# Altium footprint library footprints.PcbLib: 23 footprints (part 1 of 2)
Each footprint in its own frame and in the unit in brackets; x right, y up, seen from the top. Pads: shape width x height; smd on the part's side, far side on the other; paste and mask are expansions set on the pad; w line width, h text height; cw(c..) or ccw(c..) is an arc to the next point about the centre after c.
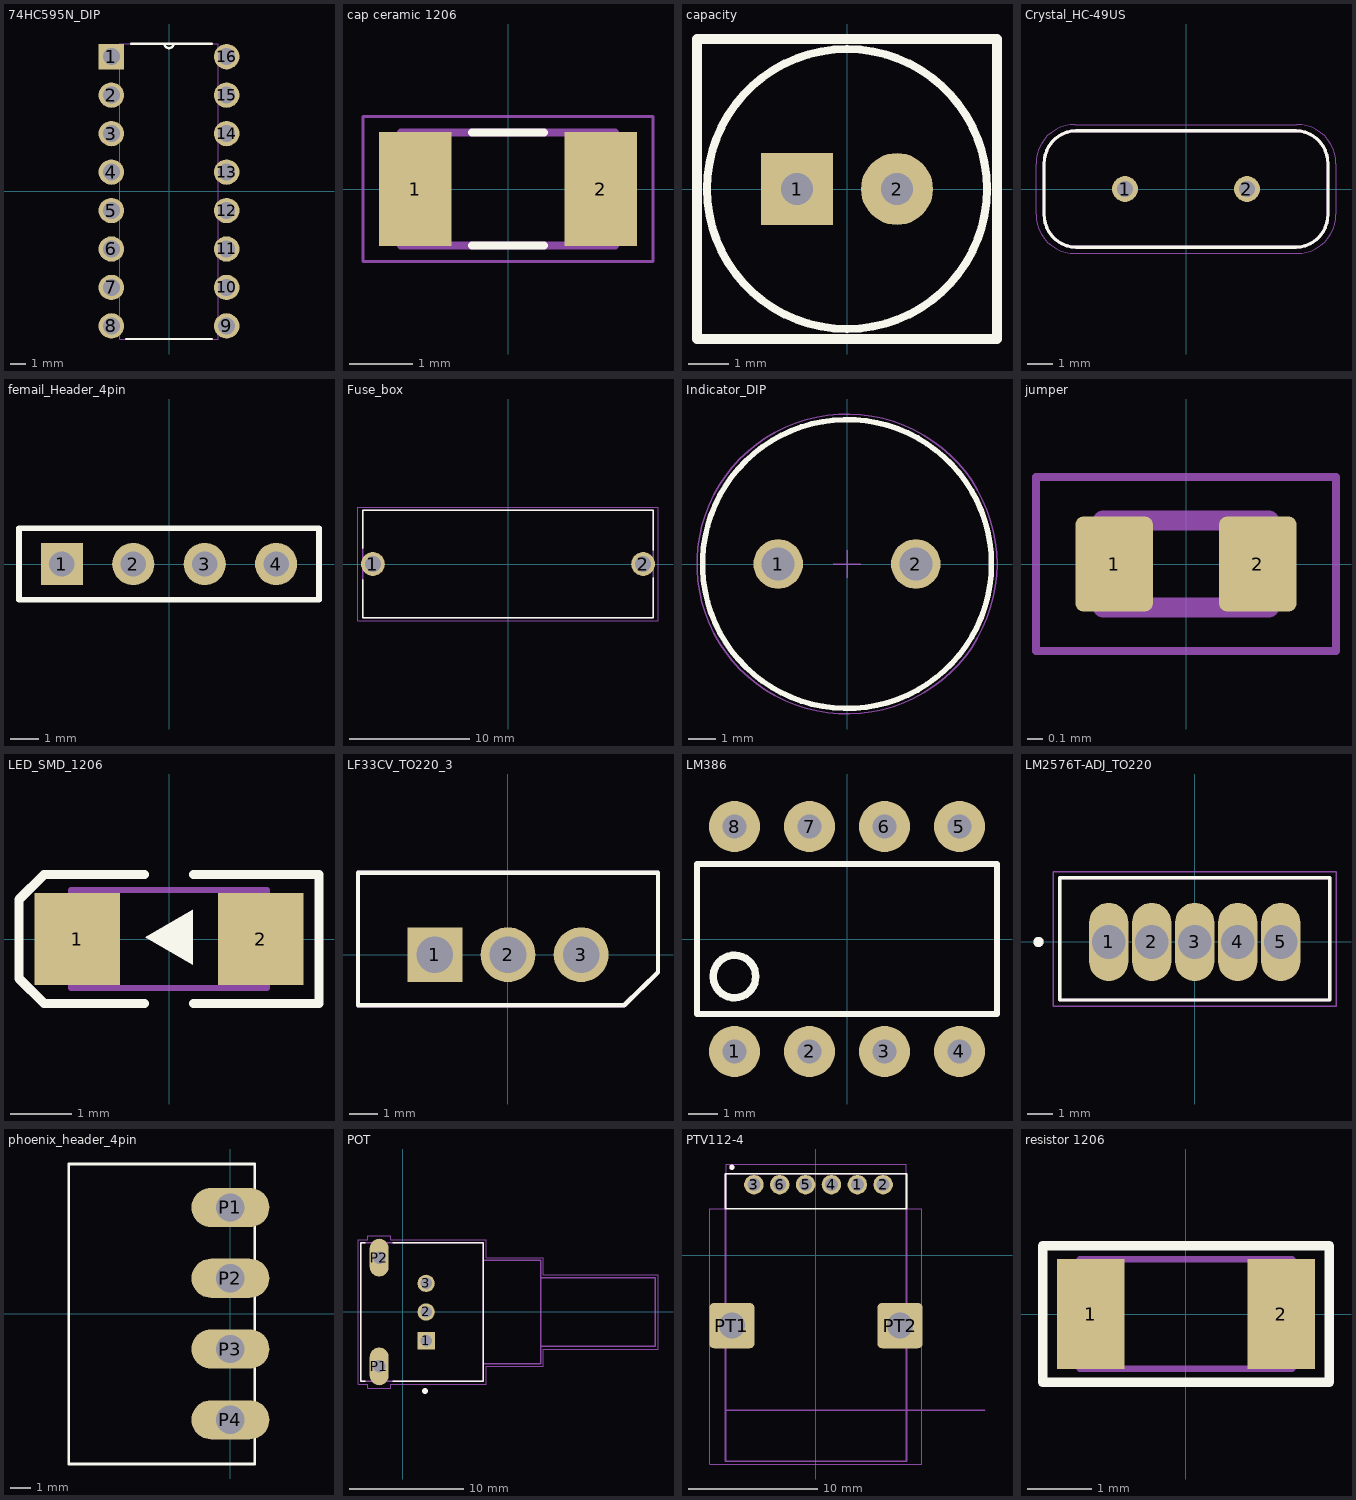
[diagram p0: the footprints below, top view; thin cyan lines are the x and y axes]

## 74HC595N_DIP [mil]
pads (16):
  rect 66x66 / inner round 66 / far side rect 66x66 hole 44: 1(-150,350)
  round 66 hole 44: 2(-150,250) 3(-150,150) 4(-150,50) 5(-150,-50) 6(-150,-150) 7(-150,-250) 8(-150,-350) 9(150,-350) 10(150,-250) 11(150,-150) 12(150,-50) 13(150,50) 14(150,150) 15(150,250) 16(150,350)
Top Overlay:
  lines w6: -111,-384 111,-384 ; -98,384 -12,384 ; 111,384 12,384 ; -12,384 ccw(c0,384) 12,384 ; -12,384 12,384
Mechanical 13:
  lines w0: -12,384 ccw(c0,384) 12,384 ; -12,384 -128,384 -128,-384 128,-384 128,384 12,384 ; -12,384 12,384 ; -172,-372 -128,-372 -128,-328 -172,-328 -172,-372 ; -172,-272 -128,-272 -128,-228 -172,-228 -172,-272 ; -172,-172 -128,-172 -128,-128 -172,-128 -172,-172 ; -172,-72 -128,-72 -128,-28 -172,-28 -172,-72 ; -172,28 -128,28 -128,72 -172,72 -172,28 ; -172,128 -128,128 -128,172 -172,172 -172,128 ; -172,228 -128,228 -128,272 -172,272 -172,228 ; -172,328 -128,328 -128,372 -172,372 -172,328 ; 128,-372 172,-372 172,-328 128,-328 128,-372 ; 128,-272 172,-272 172,-228 128,-228 128,-272 ; 128,-172 172,-172 172,-128 128,-128 128,-172 ; 128,-72 172,-72 172,-28 128,-28 128,-72 ; 128,28 172,28 172,72 128,72 128,28 ; 128,128 172,128 172,172 128,172 128,128 ; 128,228 172,228 172,272 128,272 128,228 ; 128,328 172,328 172,372 128,372 128,328
3D body "step_temp.STEP": height 165.35, standoff -130.91, extent -185.62,-371.92 186.13,377.1

## cap ceramic 1206 [mm]
pads (2):
  rect 1.16x1.82 smd: 1(-1.475,0) 2(1.475,0)
Top Overlay:
  lines w0.127: -0.57,-0.9 0.57,-0.9 ; -0.57,0.9 0.57,0.9
Mechanical 13:
  lines w0.127: -1.7,-0.9 1.7,-0.9 1.7,0.9 -1.7,0.9 -1.7,-0.9
Mechanical 15:
  lines w0.05: -2.308,-1.15 2.308,-1.15 2.308,1.15 -2.308,1.15 -2.308,-1.15
3D body "C1206C105K5RACTU.STEP": height 1.8, standoff 0, extent -1.6,-0.8 1.6,0.8

## capacity [mm]
pads (2):
  rect 1.8x1.8 hole 0.8: 1(-1.25,0)
  round 1.8 hole 0.8: 2(1.25,0)
Top Overlay:
  circle w0.2: c0,0 r3.5
  lines w0.254: -3.75,-3.75 -3.75,3.75 3.75,3.75 3.75,-3.75 -3.75,-3.75
3D body "User Library-Cap electrolitic radial 6x7.STEP": height 7.3, standoff -1.2, extent -2.999,-2.999 2.999,2.998

## Crystal_HC-49US [mm]
pads (2):
  round 1.03 hole 0.63: 1(-2.44,0) 2(2.44,0)
Top Overlay:
  lines w0.127: -5.675,-1.012 ccw(c-4.38,-1.035) -4.403,-2.33 ; -5.675,-1.01 -5.675,1.01 ; -5.675,1.012 cw(c-4.38,1.035) -4.403,2.33 ; -4.405,-2.33 4.405,-2.33 ; -4.405,2.33 4.405,2.33 ; 4.403,-2.33 ccw(c4.38,-1.035) 5.675,-1.012 ; 4.403,2.33 cw(c4.38,1.035) 5.675,1.012 ; 5.675,-1.01 5.675,1.01
Mechanical 13:
  lines w0.127: -5.675,-1.012 ccw(c-4.38,-1.035) -4.403,-2.33 ; -5.675,-1.01 -5.675,1.01 ; -5.675,1.012 cw(c-4.38,1.035) -4.403,2.33 ; -4.405,-2.33 4.405,-2.33 ; -4.405,2.33 4.405,2.33 ; 4.403,-2.33 ccw(c4.38,-1.035) 5.675,-1.012 ; 4.403,2.33 cw(c4.38,1.035) 5.675,1.012 ; 5.675,-1.01 5.675,1.01
Mechanical 15:
  lines w0.05: -6,-1.01 ccw(c-4.43,-1.01) -4.43,-2.58 4.43,-2.58 ccw(c4.43,-1.01) 6,-1.01 6,1.01 ccw(c4.43,1.01) 4.43,2.58 -4.43,2.58 ccw(c-4.43,1.01) -6,1.01 -6,-1.01
3D body "step_temp.STEP": height 3.5, standoff -12.7, extent -5.675,-2.325 5.675,2.325

## femail_Header_4pin [mm]
pads (4):
  rect 1.5x1.5 hole 0.9: 1(-3.81,0)
  round 1.5 hole 0.9: 2(-1.27,0) 3(1.27,0) 4(3.81,0)
Top Overlay:
  lines w0.2: -5.334,-1.27 5.334,-1.27 5.334,1.27 -5.334,1.27 -5.334,-1.27
3D body "zl305-4s_p2-54_l10-66_w2-5_h5.stp": height 5, standoff -3, extent -5.33,-1.25 5.33,1.25

## Fuse_box [mm]
pads (2):
  round 1.98 hole 1.32: 1(-11.25,0) 2(11.25,0)
Top Overlay:
  lines w0.127: -12.105,-1.32 -12.105,-4.495 12.105,-4.495 12.105,-1.15 ; -12.105,1.32 -12.105,4.495 12.105,4.495 12.105,1.15
Mechanical 13:
  lines w0.127: -12.105,-4.495 12.105,-4.495 12.105,4.495 -12.105,4.495 -12.105,-4.495
Mechanical 15:
  lines w0.05: -12.49,-4.745 12.49,-4.745 12.49,4.745 -12.49,4.745 -12.49,-4.745
3D body "step_temp.STEP": height 11.99, standoff -3.96, extent -12.103,-4.496 12.103,4.496

## Indicator_DIP [mm]
pads (2):
  round 1.8 hole 1.2: 1(-2.5,0) 2(2.5,0)
Top Overlay:
  circle w0.2: c0,0 r5.25
Assembly Notes:
  circle w0.05: c0,0 r5.45
Top Component Outline:
  circle w0.1: c0,0 r5.25
Top Component Center:
  lines w0.05: -0.5,0 0.5,0 ; 0,-0.5 0,0.5
3D body "Download_STP_WE-TI_8075_744732xxx_rev1.stp": height 7.24, standoff -5.46, extent -4.097,-4.1 4.097,4.093

## jumper [mm]
pads (2):
  rrect20% 0.49x0.6 smd: 1(-0.455,0) 2(0.455,0)
Mechanical 13:
  lines w0.127: -0.525,-0.275 -0.525,0.275 0.525,0.275 0.525,-0.275 -0.525,-0.275
Mechanical 15:
  lines w0.05: -0.95,-0.55 -0.95,0.55 0.95,0.55 0.95,-0.55 -0.95,-0.55

## LED_SMD_1206 [mm]
pads (2):
  rect 1.4x1.5 smd: 1(-1.5,0) 2(1.5,0)
Top Overlay:
  region: -0.39,0.025 0.39,0.475 0.39,-0.425
  lines w0.15: -0.4,-1.054 -2.046,-1.054 -2.454,-0.646 -2.454,0.646 -2.046,1.054 -0.4,1.054 ; 0.4,-1.054 2.454,-1.054 2.454,1.054 0.4,1.054
Mechanical 13:
  lines w0.1: -1.6,-0.8 -1.6,0.8 1.6,0.8 1.6,-0.8 -1.6,-0.8
3D body "WL-SMCW_1206_LED.stp": height 0.68, standoff 0, extent -1.6,-0.8 1.6,0.8

## LF33CV_TO220_3 [mm]
pads (3):
  rect 1.905x1.905 / inner round 1.905 / far side rect 1.905x1.905 hole 1.27: 1(-2.54,0)
  round 1.905 hole 1.27: 2(0,0) 3(2.54,0)
Top Overlay:
  lines w0.152: -5.207,-1.753 -5.207,2.845 5.207,2.845 5.207,-0.61 4.039,-1.753 -5.207,-1.753
Mechanical 13:
  lines w0.152: -5.207,-1.753 -5.207,2.845 5.207,2.845 5.207,-0.61 4.039,-1.753 -5.207,-1.753
3D body "step_temp.STEP": height 19.68, standoff -9.22, extent -5.1,-1.666 5.1,2.834

## LM386 [mil]
pads (8):
  round 68 hole 32: 1(-150,-150) 2(-50,-150) 3(50,-150) 4(150,-150) 5(150,150) 6(50,150) 7(-50,150) 8(-150,150)
Top Overlay:
  circle w10: c-150,-50 r28.28
  lines w8: -200,-40 -200,-60 ; -200,-60 -200,100 200,100 200,-100 -200,-100 -200,-60
3D body "step_temp.STEP": height 210, standoff -150, extent -182.5,-215 182.5,215

## LM2576T-ADJ_TO220 [mm]
pads (5):
  oval 1.55x3.1 hole 1.34: 1(-3.4,0) 2(-1.7,0) 3(0,0) 4(1.7,0) 5(3.4,0)
Top Overlay:
  circle w0.2: c-6.175,0 r0.1
  lines w0.127: -5.335,-2.29 -5.335,2.54 5.335,2.54 5.335,-2.29 -5.335,-2.29
Mechanical 13:
  circle w0.2: c-6.175,0 r0.1
  lines w0.127: -5.335,-2.29 -5.335,2.54 5.335,2.54 5.335,-2.29 -5.335,-2.29
Mechanical 15:
  lines w0.05: -5.585,-2.54 -5.585,2.775 5.585,2.775 5.585,-2.54 -5.585,-2.54
3D body "step_temp.STEP": height 16.84, standoff -14.73, extent -5.08,-1.905 5.08,2.54

## phoenix_header_4pin [mm]
pads (4):
  oval 3.861x1.93 hole 1.4: P1(0,5.25) P2(0,1.75) P3(0,-1.75) P4(0,-5.25)
Top Overlay:
  lines w0.127: -8,-7.437 1.2,-7.437 1.2,7.4 -8,7.4 -8,-7.437
3D body "step_temp.STEP": height 7.24, standoff -3.4, extent -8,-7.09 1.2,7.71

## POT [mm]
pads (5):
  rect 1.508x1.508 hole 1: 1(2.05,-2.5)
  round 1.508 hole 1: 2(2.05,0) 3(2.05,2.5)
  oval 1.65x3.3 hole 1.1 square: P1(-2.05,-4.75) P2(-2.05,4.75)
Top Overlay:
  circle w0.3: c1.95,-6.9 r0.1
  lines w0.127: -3.25,-6.05 -3.65,-6.05 -3.65,6.05 -3.25,6.05 ; -0.85,-6.05 7.05,-6.05 7.05,6.05 -0.85,6.05
Mechanical 13:
  circle w0.3: c1.95,-6.9 r0.1
  lines w0.127: 7.05,-4.5 7.05,-6.05 -3.65,-6.05 -3.65,6.05 7.05,6.05 7.05,4.5 ; 7.05,-4.5 7.05,4.5 ; 7.05,-4.5 12.05,-4.5 12.05,-3 ; 7.05,4.5 12.05,4.5 12.05,3 ; 12.05,-3 12.05,3 ; 12.05,-3 22.05,-3 22.05,3 12.05,3
Mechanical 15:
  lines w0.05: -3.9,-6.3 -3.05,-6.3 -3.05,-6.65 -1.05,-6.65 -1.05,-6.3 7.3,-6.3 7.3,-4.75 12.3,-4.75 12.3,-3.25 22.3,-3.25 22.3,3.25 12.3,3.25 12.3,4.75 7.3,4.75 7.3,6.3 -1.05,6.3 -1.05,6.65 -3.05,6.65 -3.05,6.3 -3.9,6.3 -3.9,-6.3
3D body "rk09l1120a2s.stp": height 12.47, standoff -2.38, extent -3.701,-6.05 21.999,6.05

## PTV112-4 [mm]
pads (8):
  round 1.508 hole 1: 1(3.198,5.45) 2(5.198,5.45) 3(-4.802,5.45) 4(1.198,5.45) 5(-0.802,5.45) 6(-2.802,5.45)
  rrect20% 3.5x3.5 hole 2: PT1(-6.5,-5.45) PT2(6.5,-5.45)
Top Overlay:
  circle w0.2: c-6.5,6.8 r0.1
  lines w0.127: -7,3.6 -7,6.3 7,6.3 7,3.6 -7,3.6
Mechanical 1:
  lines w0.127: 7,-15.95 -7,-15.95 -7,6.3 7,6.3
Mechanical 13:
  circle w0.2: c-6.5,6.8 r0.1
  lines w0.127: -6.95,-12 13.05,-12 ; 7,-15.95 7,6.25
  text "PCB EDGE" at 9,-11.45 h1.02
Mechanical 15:
  lines w0.05: -8.2,-16.15 -8.2,3.6 -6.95,3.6 -6.95,7.05 3.05,7.05 7,7.05 7,6.45 7,3.6 8.2,3.6 8.2,-16.15 -8.2,-16.15
3D body "PTV112-4420A-B503--3DModel-STEP-269445.STEP": height 22, standoff -1.8, extent -7,-11.95 7.4,5.65

## resistor 1206 [mm]
pads (2):
  rect 1.05x1.7 smd: 1(-1.475,0) 2(1.475,0)
Top Overlay:
  lines w0.15: -2.22,-1.06 2.22,-1.06 2.22,1.06 -2.22,1.06 -2.22,-1.06
Mechanical 13:
  lines w0.1: -1.65,-0.85 -1.65,0.85 1.65,0.85 1.65,-0.85 -1.65,-0.85
Mechanical 15:
  lines w0.05: -2.25,-1.1 -2.25,1.1 2.25,1.1 2.25,-1.1 -2.25,-1.1
3D body "RES1206.step": height 0.94, standoff 0, extent -1.65,-0.85 1.65,0.85